# EAGLE library part XF2M-30_CONN (library ZHAW_BA)
30 positionen FPC Steckverbinder Kontakte, Oben und Unten 0,020" (0,50mm) Oberflächenmontage, rechtwinklig Distrelec: Pt.Nr: 301-71-305 https://www.distrelec.ch/de/steckverbinder-ffc-fpc-30-pole-50v-5a-omron-electronic-components-xf2m-3015-1a/p/30171305?track=true&no-cache=true&marketingPopup=false DigiKey: Pt.Nr: OR723CT-ND https://www.digikey.ch/product-detail/de/omron-electronics-inc-emc-div/XF2M-3015-1A/OR723CT-ND/948481
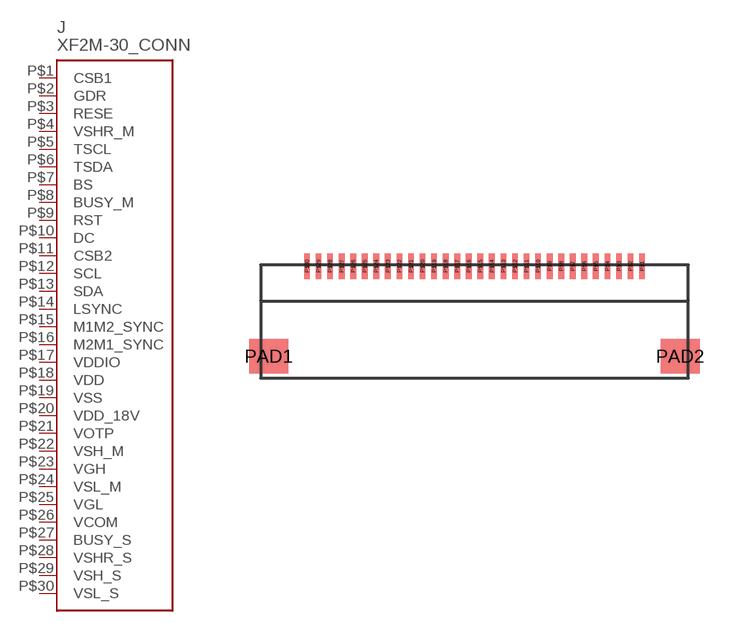
[diagram p3: symbol with the pads of XF2M-30; footprint XF2M-30]

Designator prefix J

## XF2M-30_CONN  [XF2M-30]
P$1  CSB1  pas
P$2  GDR  pas
P$3  RESE  pas
P$4  VSHR_M  pas
P$5  TSCL  pas
P$6  TSDA  pas
P$7  BS  pas
P$8  BUSY_M  pas
P$9  RST  pas
P$10  DC  pas
P$11  CSB2  pas
P$12  SCL  pas
P$13  SDA  pas
P$14  LSYNC  pas
P$15  M1M2_SYNC  pas
P$16  M2M1_SYNC  pas
P$17  VDDIO  pas
P$18  VDD  pas
P$19  VSS  pas
P$20  VDD_18V  pas
P$21  VOTP  pas
P$22  VSH_M  pas
P$23  VGH  pas
P$24  VSL_M  pas
P$25  VGL  pas
P$26  VCOM  pas
P$27  BUSY_S  pas
P$28  VSHR_S  pas
P$29  VSH_S  pas
P$30  VSL_S  pas

## Footprint XF2M-30 (pad centres in mm)
smd 0.25 x 1.1: P$1 7.25,0; P$2 6.75,0; P$3 6.25,0; P$4 5.75,0; P$5 5.25,0; P$6 4.75,0; P$7 4.25,0; P$8 3.75,0; P$9 3.25,0; P$10 2.75,0; P$11 2.25,0; P$12 1.75,0; P$13 1.25,0; P$14 0.75,0; P$15 0.25,0; P$16 -0.25,0; P$17 -0.75,0; P$18 -1.25,0; P$19 -1.75,0; P$20 -2.25,0; P$21 -2.75,0; P$22 -3.25,0; P$23 -3.75,0; P$24 -4.25,0; P$25 -4.75,0; P$26 -5.25,0; P$27 -5.75,0; P$28 -6.25,0; P$29 -6.75,0; P$30 -7.25,0
smd 1.7 x 1.5: PAD1 -8.9,-3.9; PAD2 8.9,-3.9